# Altium footprint library 2212S-10SG-85.PcbLib: 1 footprints
Each footprint in its own frame and in the unit in brackets; x right, y up, seen from the top. Pads: shape width x height; smd on the part's side, far side on the other; paste and mask are expansions set on the pad; w line width, h text height; cw(c..) or ccw(c..) is an arc to the next point about the centre after c.
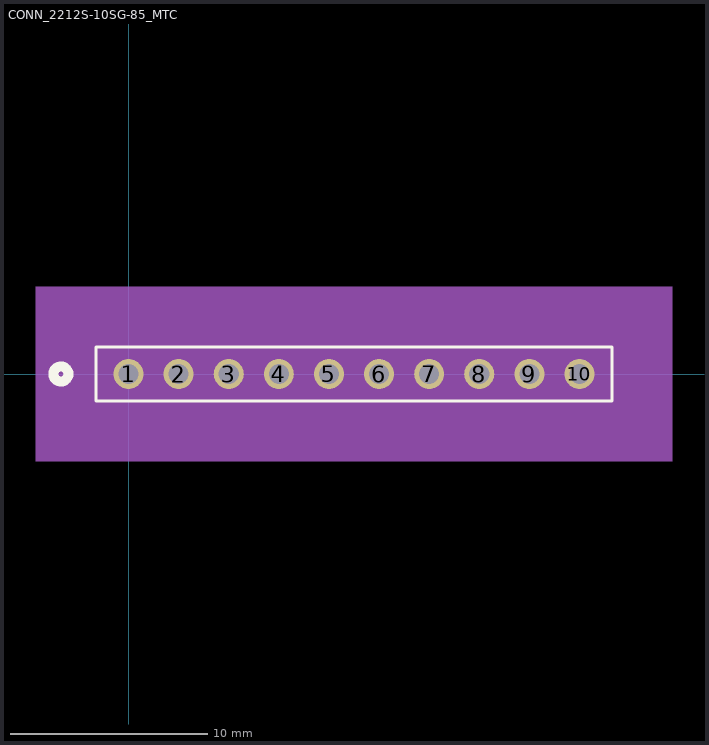
[diagram p0: the footprint, top view; thin cyan lines are the x and y axes]

## CONN_2212S-10SG-85_MTC [mil]
pads (10):
  round 60 hole 40 mask+0: 1(0,0) 2(100,0) 3(200,0) 4(300,0) 5(400,0) 6(500,0) 7(600,0) 8(700,0) 9(800,0) 10(900,0)
Top Overlay:
  circle w20: c-135,0 r15
  lines w6: -65,-54 965,-54 965,54 -65,54 -65,-54
Bottom Overlay:
  circle w20: c-135,0 r15
Mechanical 5:
  region: -185,174 1085,174 1085,-174 -185,-174
Mechanical 13:
  circle w20: c0,75 r15
  lines w1: -60,-49 960,-49 960,49 -60,49 -60,-49
Mechanical 15:
  region: 970,59 -70,59 -70,-59 970,-59
  lines w6: -70,-59 -70,59 970,59 970,-59 -70,-59
3D body: height 10, standoff 0, extent 0,0 10,10